# Altium integrated library ON Semi Zener Diodes.IntLib: 1366 symbols (part 12 of 29)
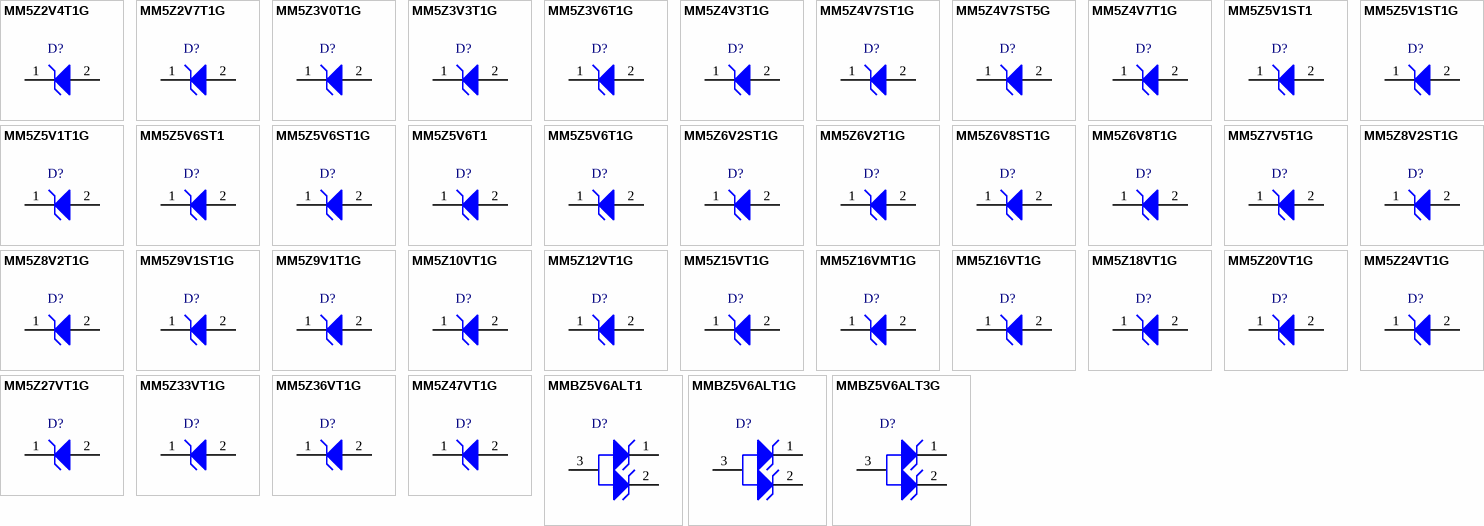
[diagram p55: symbols MM5Z2V4T1G to MMBZ5V6ALT3G]

## MM5Z20VT1G
designator D?
Zener Voltage Regulator, 500 mW, 2-Pin SOD-523, Pb-Free, Tape and Reel; Manufacturer: On Semiconductor; PartNumber: MM5Z20VT1G; P Max (W): 0.5; VZ Typ (V): 20; DatasheetVersion: Rev. 10; PackageVersion: Rev. E, 09/2010; PackageReference: SOD-523-2-502-01; PackageDescription: 2-Pin SOD, Body 1.2 x 0.8 mm; Supplier 1: Digi-Key; Supplier Part Number 1: MM5Z20VT1GOS-ND; Supplier 2: Mouser; Supplier Part Number 2: 863-MM5Z20VT1G; Packing: Tape and Reel; RoHS: Pb-Free; Mounting Technology: Surface Mount; ComponentLink1Description: Manufacturer URL; ComponentLink1URL: http://www.onsemi.com/; ComponentLink2Description: Datasheet; ComponentLink2URL: http://www.onsemi.cn/pub_link/Collateral/MM5Z2V4T1-D.PDF; ComponentLink3Description: Package Specification; ComponentLink3URL: http://www.onsemi.com/pub_link/Collateral/502-01.PDF
footprint ONSC-SOD-523-2-502-01_V (SOD, 2-Leads, Body 1.2x0.8mm)
pins: 1 K, 2 A

## MM5Z24VT1G
designator D?
Zener Voltage Regulator, 500 mW, 2-Pin SOD-523, Pb-Free, Tape and Reel; Manufacturer: On Semiconductor; PartNumber: MM5Z24VT1G; P Max (W): 0.5; VZ Typ (V): 24.2; DatasheetVersion: Rev. 10; PackageVersion: Rev. E, 09/2010; PackageReference: SOD-523-2-502-01; PackageDescription: 2-Pin SOD, Body 1.2 x 0.8 mm; Supplier 1: Digi-Key; Supplier Part Number 1: MM5Z24VT1GOSTR-ND; Supplier 2: Digi-Key; Supplier Part Number 2: MM5Z24VT1GOSCT-ND; Supplier 3: Mouser; Supplier Part Number 3: 863-MM5Z24VT1G; Packing: Tape and Reel; RoHS: Pb-Free; Mounting Technology: Surface Mount; ComponentLink1Description: Manufacturer URL; ComponentLink1URL: http://www.onsemi.com/; ComponentLink2Description: Datasheet; ComponentLink2URL: http://www.onsemi.cn/pub_link/Collateral/MM5Z2V4T1-D.PDF; ComponentLink3Description: Package Specification; ComponentLink3URL: http://www.onsemi.com/pub_link/Collateral/502-01.PDF
footprint ONSC-SOD-523-2-502-01_V (SOD, 2-Leads, Body 1.2x0.8mm)
pins: 1 K, 2 A

## MM5Z27VT1G
designator D?
Zener Voltage Regulator, 500 mW, 2-Pin SOD-523, Pb-Free, Tape and Reel; Manufacturer: On Semiconductor; PartNumber: MM5Z27VT1G; P Max (W): 0.5; VZ Typ (V): 27; DatasheetVersion: Rev. 10; PackageVersion: Rev. E, 09/2010; PackageReference: SOD-523-2-502-01; PackageDescription: 2-Pin SOD, Body 1.2 x 0.8 mm; Supplier 1: Digi-Key; Supplier Part Number 1: MM5Z27VT1GOS-ND; Supplier 2: Newark; Supplier Part Number 2: 61K0991; Supplier 3: Mouser; Supplier Part Number 3: 863-MM5Z27VT1G; Packing: Tape and Reel; RoHS: Pb-Free; Mounting Technology: Surface Mount; ComponentLink1Description: Manufacturer URL; ComponentLink1URL: http://www.onsemi.com/; ComponentLink2Description: Datasheet; ComponentLink2URL: http://www.onsemi.cn/pub_link/Collateral/MM5Z2V4T1-D.PDF; ComponentLink3Description: Package Specification; ComponentLink3URL: http://www.onsemi.com/pub_link/Collateral/502-01.PDF
footprint ONSC-SOD-523-2-502-01_V (SOD, 2-Leads, Body 1.2x0.8mm)
pins: 1 K, 2 A

## MM5Z33VT1G
designator D?
Zener Voltage Regulator, 500 mW, 2-Pin SOD-523, Pb-Free, Tape and Reel; Manufacturer: On Semiconductor; PartNumber: MM5Z33VT1G; P Max (W): 0.5; VZ Typ (V): 33; DatasheetVersion: Rev. 10; PackageVersion: Rev. E, 09/2010; PackageReference: SOD-523-2-502-01; PackageDescription: 2-Pin SOD, Body 1.2 x 0.8 mm; Supplier 1: Digi-Key; Supplier Part Number 1: MM5Z33VT1GOSTR-ND; Supplier 2: Digi-Key; Supplier Part Number 2: MM5Z33VT1GOSCT-ND; Supplier 3: Newark; Supplier Part Number 3: 61K0994; Supplier 4: Mouser; Supplier Part Number 4: 863-MM5Z33VT1G; Packing: Tape and Reel; RoHS: Pb-Free; Mounting Technology: Surface Mount; ComponentLink1Description: Manufacturer URL; ComponentLink1URL: http://www.onsemi.com/; ComponentLink2Description: Datasheet; ComponentLink2URL: http://www.onsemi.cn/pub_link/Collateral/MM5Z2V4T1-D.PDF; ComponentLink3Description: Package Specification; ComponentLink3URL: http://www.onsemi.com/pub_link/Collateral/502-01.PDF
footprint ONSC-SOD-523-2-502-01_V (SOD, 2-Leads, Body 1.2x0.8mm)
pins: 1 K, 2 A

## MM5Z36VT1G
designator D?
Zener Voltage Regulator, 500 mW, 2-Pin SOD-523, Pb-Free, Tape and Reel; Manufacturer: On Semiconductor; PartNumber: MM5Z36VT1G; P Max (W): 0.5; VZ Typ (V): 36; DatasheetVersion: Rev. 10; PackageVersion: Rev. E, 09/2010; PackageReference: SOD-523-2-502-01; PackageDescription: 2-Pin SOD, Body 1.2 x 0.8 mm; Supplier 1: Digi-Key; Supplier Part Number 1: MM5Z36VT1GOSTR-ND; Supplier 2: Digi-Key; Supplier Part Number 2: MM5Z36VT1GOSCT-ND; Supplier 3: Newark; Supplier Part Number 3: 61K0995; Supplier 4: Mouser; Supplier Part Number 4: 863-MM5Z36VT1G; Packing: Tape and Reel; RoHS: Pb-Free; Mounting Technology: Surface Mount; ComponentLink1Description: Manufacturer URL; ComponentLink1URL: http://www.onsemi.com/; ComponentLink2Description: Datasheet; ComponentLink2URL: http://www.onsemi.cn/pub_link/Collateral/MM5Z2V4T1-D.PDF; ComponentLink3Description: Package Specification; ComponentLink3URL: http://www.onsemi.com/pub_link/Collateral/502-01.PDF
footprint ONSC-SOD-523-2-502-01_V (SOD, 2-Leads, Body 1.2x0.8mm)
pins: 1 K, 2 A

## MM5Z47VT1G
designator D?
Zener Voltage Regulator, 500 mW, 2-Pin SOD-523, Pb-Free, Tape and Reel; Manufacturer: On Semiconductor; PartNumber: MM5Z47VT1G; P Max (W): 0.5; VZ Typ (V): 47; DatasheetVersion: Rev. 10; PackageVersion: Rev. E, 09/2010; PackageReference: SOD-523-2-502-01; PackageDescription: 2-Pin SOD, Body 1.2 x 0.8 mm; Supplier 1: Digi-Key; Supplier Part Number 1: MM5Z47VT1GOS-ND; Supplier 2: Mouser; Supplier Part Number 2: 863-MM5Z47VT1G; Packing: Tape and Reel; RoHS: Pb-Free; Mounting Technology: Surface Mount; ComponentLink1Description: Manufacturer URL; ComponentLink1URL: http://www.onsemi.com/; ComponentLink2Description: Datasheet; ComponentLink2URL: http://www.onsemi.cn/pub_link/Collateral/MM5Z2V4T1-D.PDF; ComponentLink3Description: Package Specification; ComponentLink3URL: http://www.onsemi.com/pub_link/Collateral/502-01.PDF
footprint ONSC-SOD-523-2-502-01_V (SOD, 2-Leads, Body 1.2x0.8mm)
pins: 1 K, 2 A

## MMBZ5V6ALT1
designator D?
24 W Peak Power Zener Transient Voltage Suppressor, Dual Common Anode Zeners for ESD Protection, 3-Pin SOT-23, Tape and Reel; Manufacturer: On Semiconductor; PartNumber: MMBZ5V6ALT1; VZ Typ (V): 5.6; DatasheetVersion: Rev. 13; PackageVersion: Rev. AP, 11/2009; PackageReference: SOT-23-3-318-08; PackageDescription: 3-Pin Small Outline Transistor, Body 2.92 x 1.3 mm, Pitch 0.95 mm; Supplier 1: Digi-Key; Supplier Part Number 1: MMBZ5V6ALT1OSCT-ND; Packing: Tape and Reel; Mounting Technology: Surface Mount; ComponentLink1Description: Manufacturer URL; ComponentLink1URL: http://www.onsemi.com/; ComponentLink2Description: Datasheet; ComponentLink2URL: http://www.onsemi.cn/pub_link/Collateral/MMBZ5V6ALT1-D.PDF; ComponentLink3Description: Package Specification; ComponentLink3URL: http://www.onsemi.cn/pub_link/Collateral/318-08.PDF
footprint ONSC-SOT-23-3-318-08_V (SOT23, 3-Leads, Body 2.92x1.3mm, Pitch 0.95mm)
pins: 1 K1, 2 K2, 3 A

## MMBZ5V6ALT1G
designator D?
24 W Peak Power Zener Transient Voltage Suppressor, Dual Common Anode Zeners for ESD Protection, 3-Pin SOT-23, Pb-Free, Tape and Reel; Manufacturer: On Semiconductor; PartNumber: MMBZ5V6ALT1G; VZ Typ (V): 5.6; DatasheetVersion: Rev. 13; PackageVersion: Rev. AP, 11/2009; PackageReference: SOT-23-3-318-08; PackageDescription: 3-Pin Small Outline Transistor, Body 2.92 x 1.3 mm, Pitch 0.95 mm; Supplier 1: Digi-Key; Supplier Part Number 1: MMBZ5V6ALT1GOSTR-ND; Supplier 2: Digi-Key; Supplier Part Number 2: MMBZ5V6ALT1GOSCT-ND; Supplier 3: Digi-Key; Supplier Part Number 3: MMBZ5V6ALT1GOSDKR-ND; Supplier 4: Farnell; Supplier Part Number 4: 1431253RL; Supplier 5: Farnell; Supplier Part Number 5: 2317793; Supplier 6: Farnell; Supplier Part Number 6: 1431253; Supplier 7: Newark; Supplier Part Number 7: 67R1349; Supplier 8: Newark; Supplier Part Number 8: 98H0768; Supplier 9: Mouser; Supplier Part Number 9: 863-MMBZ5V6ALT1G; Packing: Tape and Reel; RoHS: Pb-Free; Mounting Technology: Surface Mount; ComponentLink1Description: Manufacturer URL; ComponentLink1URL: http://www.onsemi.com/; ComponentLink2Description: Datasheet; ComponentLink2URL: http://www.onsemi.cn/pub_link/Collateral/MMBZ5V6ALT1-D.PDF; ComponentLink3Description: Package Specification; ComponentLink3URL: http://www.onsemi.cn/pub_link/Collateral/318-08.PDF
footprint ONSC-SOT-23-3-318-08_V (SOT23, 3-Leads, Body 2.92x1.3mm, Pitch 0.95mm)
pins: 1 K1, 2 K2, 3 A

## MMBZ5V6ALT3G
designator D?
24 W Peak Power Zener Transient Voltage Suppressor, Dual Common Anode Zeners for ESD Protection, 3-Pin SOT-23, Pb-Free, Tape and Reel; Manufacturer: On Semiconductor; PartNumber: MMBZ5V6ALT3G; VZ Typ (V): 5.6; DatasheetVersion: Rev. 13; PackageVersion: Rev. AP, 11/2009; PackageReference: SOT-23-3-318-08; PackageDescription: 3-Pin Small Outline Transistor, Body 2.92 x 1.3 mm, Pitch 0.95 mm; Supplier 1: Digi-Key; Supplier Part Number 1: MMBZ5V6ALT3G-ND; Supplier 2: Newark; Supplier Part Number 2: 98H0769; Supplier 3: Mouser; Supplier Part Number 3: 863-MMBZ5V6ALT3G; Packing: Tape and Reel; RoHS: Pb-Free; Mounting Technology: Surface Mount; ComponentLink1Description: Manufacturer URL; ComponentLink1URL: http://www.onsemi.com/; ComponentLink2Description: Datasheet; ComponentLink2URL: http://www.onsemi.cn/pub_link/Collateral/MMBZ5V6ALT1-D.PDF; ComponentLink3Description: Package Specification; ComponentLink3URL: http://www.onsemi.cn/pub_link/Collateral/318-08.PDF
footprint ONSC-SOT-23-3-318-08_V (SOT23, 3-Leads, Body 2.92x1.3mm, Pitch 0.95mm)
pins: 1 K1, 2 K2, 3 A

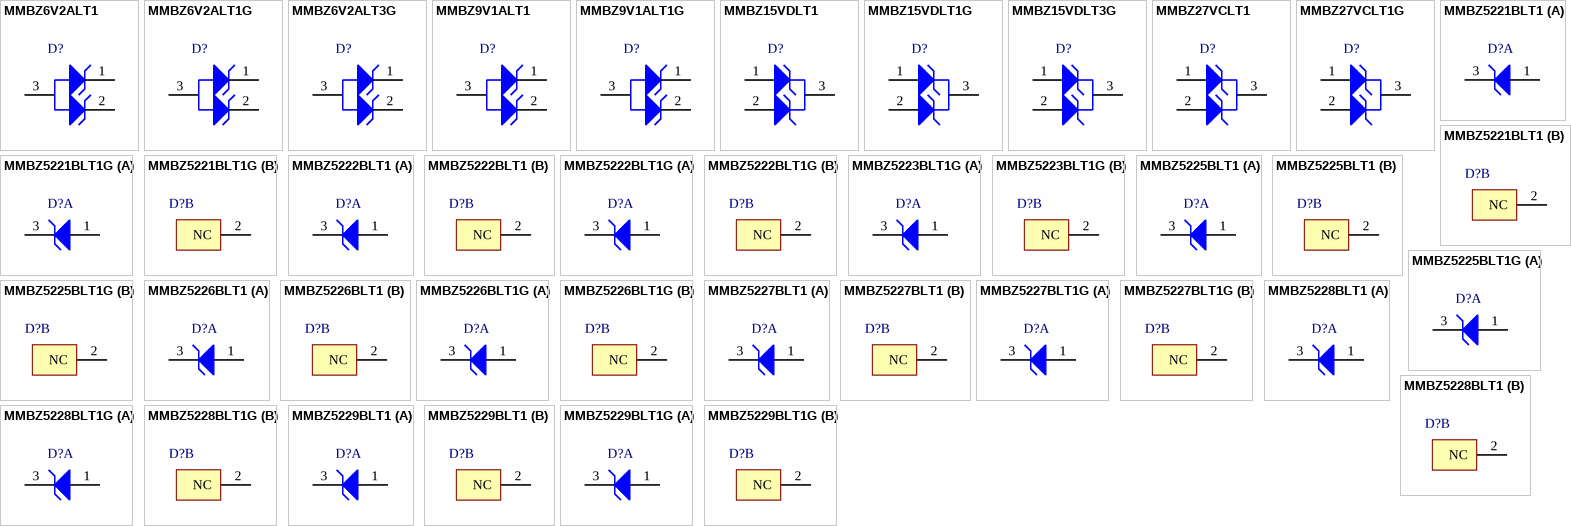
[diagram p16: symbols MMBZ6V2ALT1 to MMBZ5229BLT1G]

## MMBZ6V2ALT1
designator D?
24 W Peak Power Zener Transient Voltage Suppressor, Dual Common Anode Zeners for ESD Protection, 3-Pin SOT-23, Tape and Reel; Manufacturer: On Semiconductor; PartNumber: MMBZ6V2ALT1; VZ Typ (V): 6.2; DatasheetVersion: Rev. 13; PackageVersion: Rev. AP, 11/2009; PackageReference: SOT-23-3-318-08; PackageDescription: 3-Pin Small Outline Transistor, Body 2.92 x 1.3 mm, Pitch 0.95 mm; Supplier 1: Digi-Key; Supplier Part Number 1: MMBZ6V2ALT1OSTR-ND; Supplier 2: Digi-Key; Supplier Part Number 2: MMBZ6V2ALT1OSCT-ND; Packing: Tape and Reel; Mounting Technology: Surface Mount; ComponentLink1Description: Manufacturer URL; ComponentLink1URL: http://www.onsemi.com/; ComponentLink2Description: Datasheet; ComponentLink2URL: http://www.onsemi.cn/pub_link/Collateral/MMBZ5V6ALT1-D.PDF; ComponentLink3Description: Package Specification; ComponentLink3URL: http://www.onsemi.cn/pub_link/Collateral/318-08.PDF
footprint ONSC-SOT-23-3-318-08_V (SOT23, 3-Leads, Body 2.92x1.3mm, Pitch 0.95mm)
pins: 1 K1, 2 K2, 3 A

## MMBZ6V2ALT1G
designator D?
24 W Peak Power Zener Transient Voltage Suppressor, Dual Common Anode Zeners for ESD Protection, 3-Pin SOT-23, Pb-Free, Tape and Reel; Manufacturer: On Semiconductor; PartNumber: MMBZ6V2ALT1G; VZ Typ (V): 6.2; DatasheetVersion: Rev. 13; PackageVersion: Rev. AP, 11/2009; PackageReference: SOT-23-3-318-08; PackageDescription: 3-Pin Small Outline Transistor, Body 2.92 x 1.3 mm, Pitch 0.95 mm; Supplier 1: Digi-Key; Supplier Part Number 1: MMBZ6V2ALT1GOSTR-ND; Supplier 2: Digi-Key; Supplier Part Number 2: MMBZ6V2ALT1GOSCT-ND; Supplier 3: Digi-Key; Supplier Part Number 3: MMBZ6V2ALT1GOSDKR-ND; Supplier 4: Farnell; Supplier Part Number 4: 1431254RL; Supplier 5: Newark; Supplier Part Number 5: 98H0798; Supplier 6: Mouser; Supplier Part Number 6: 863-MMBZ6V2ALT1G; Packing: Tape and Reel; RoHS: Pb-Free; Mounting Technology: Surface Mount; ComponentLink1Description: Manufacturer URL; ComponentLink1URL: http://www.onsemi.com/; ComponentLink2Description: Datasheet; ComponentLink2URL: http://www.onsemi.cn/pub_link/Collateral/MMBZ5V6ALT1-D.PDF; ComponentLink3Description: Package Specification; ComponentLink3URL: http://www.onsemi.cn/pub_link/Collateral/318-08.PDF
footprint ONSC-SOT-23-3-318-08_V (SOT23, 3-Leads, Body 2.92x1.3mm, Pitch 0.95mm)
pins: 1 K1, 2 K2, 3 A

## MMBZ6V2ALT3G
designator D?
24 W Peak Power Zener Transient Voltage Suppressor, Dual Common Anode Zeners for ESD Protection, 3-Pin SOT-23, Pb-Free, Tape and Reel; Manufacturer: On Semiconductor; PartNumber: MMBZ6V2ALT3G; VZ Typ (V): 6.2; DatasheetVersion: Rev. 13; PackageVersion: Rev. AP, 11/2009; PackageReference: SOT-23-3-318-08; PackageDescription: 3-Pin Small Outline Transistor, Body 2.92 x 1.3 mm, Pitch 0.95 mm; Supplier 1: Digi-Key; Supplier Part Number 1: MMBZ6V2ALT3G-ND; Supplier 2: Mouser; Supplier Part Number 2: 863-MMBZ6V2ALT3G; Packing: Tape and Reel; RoHS: Pb-Free; Mounting Technology: Surface Mount; ComponentLink1Description: Manufacturer URL; ComponentLink1URL: http://www.onsemi.com/; ComponentLink2Description: Datasheet; ComponentLink2URL: http://www.onsemi.cn/pub_link/Collateral/MMBZ5V6ALT1-D.PDF; ComponentLink3Description: Package Specification; ComponentLink3URL: http://www.onsemi.cn/pub_link/Collateral/318-08.PDF
footprint ONSC-SOT-23-3-318-08_V (SOT23, 3-Leads, Body 2.92x1.3mm, Pitch 0.95mm)
pins: 1 K1, 2 K2, 3 A

## MMBZ9V1ALT1
designator D?
24 W Peak Power Zener Transient Voltage Suppressor, Dual Common Anode Zeners for ESD Protection, 3-Pin SOT-23, Tape and Reel; Manufacturer: On Semiconductor; PartNumber: MMBZ9V1ALT1; VZ Typ (V): 9.1; DatasheetVersion: Rev. 13; PackageVersion: Rev. AP, 11/2009; PackageReference: SOT-23-3-318-08; PackageDescription: 3-Pin Small Outline Transistor, Body 2.92 x 1.3 mm, Pitch 0.95 mm; Supplier 1: Digi-Key; Supplier Part Number 1: MMBZ9V1ALT1OS-ND; Packing: Tape and Reel; Mounting Technology: Surface Mount; ComponentLink1Description: Manufacturer URL; ComponentLink1URL: http://www.onsemi.com/; ComponentLink2Description: Datasheet; ComponentLink2URL: http://www.onsemi.cn/pub_link/Collateral/MMBZ5V6ALT1-D.PDF; ComponentLink3Description: Package Specification; ComponentLink3URL: http://www.onsemi.cn/pub_link/Collateral/318-08.PDF
footprint ONSC-SOT-23-3-318-08_V (SOT23, 3-Leads, Body 2.92x1.3mm, Pitch 0.95mm)
pins: 1 K1, 2 K2, 3 A

## MMBZ9V1ALT1G
designator D?
24 W Peak Power Zener Transient Voltage Suppressor, Dual Common Anode Zeners for ESD Protection, 3-Pin SOT-23, Pb-Free, Tape and Reel; Manufacturer: On Semiconductor; PartNumber: MMBZ9V1ALT1G; VZ Typ (V): 9.1; DatasheetVersion: Rev. 13; PackageVersion: Rev. AP, 11/2009; PackageReference: SOT-23-3-318-08; PackageDescription: 3-Pin Small Outline Transistor, Body 2.92 x 1.3 mm, Pitch 0.95 mm; Supplier 1: Digi-Key; Supplier Part Number 1: MMBZ9V1ALT1GOSTR-ND; Supplier 2: Digi-Key; Supplier Part Number 2: MMBZ9V1ALT1GOSCT-ND; Supplier 3: Digi-Key; Supplier Part Number 3: MMBZ9V1ALT1GOSDKR-ND; Supplier 4: Farnell; Supplier Part Number 4: 2369094; Supplier 5: Newark; Supplier Part Number 5: 26K4553; Supplier 6: Newark; Supplier Part Number 6: 10N9494; Supplier 7: Mouser; Supplier Part Number 7: 863-MMBZ9V1ALT1G; Packing: Tape and Reel; RoHS: Pb-Free; Mounting Technology: Surface Mount; ComponentLink1Description: Manufacturer URL; ComponentLink1URL: http://www.onsemi.com/; ComponentLink2Description: Datasheet; ComponentLink2URL: http://www.onsemi.cn/pub_link/Collateral/MMBZ5V6ALT1-D.PDF; ComponentLink3Description: Package Specification; ComponentLink3URL: http://www.onsemi.cn/pub_link/Collateral/318-08.PDF
footprint ONSC-SOT-23-3-318-08_V (SOT23, 3-Leads, Body 2.92x1.3mm, Pitch 0.95mm)
pins: 1 K1, 2 K2, 3 A

## MMBZ15VDLT1
designator D?
40 W Peak Power Zener Transient Voltage Suppressor, Dual Common Cathode Zeners for ESD Protection, 3-Pin SOT-23, Tape and Reel; Manufacturer: On Semiconductor; PartNumber: MMBZ15VDLT1; VZ Typ (V): 15; DatasheetVersion: Rev. 12; PackageVersion: Rev. AP, 11/2009; PackageReference: SOT-23-3-318-08; PackageDescription: 3-Pin Small Outline Transistor, Body 2.92 x 1.3 mm, Pitch 0.95 mm; Supplier 1: Digi-Key; Supplier Part Number 1: MMBZ15VDLT1OSCT-ND; Packing: Tape and Reel; Mounting Technology: Surface Mount; ComponentLink1Description: Manufacturer URL; ComponentLink1URL: http://www.onsemi.com/; ComponentLink2Description: Datasheet; ComponentLink2URL: http://www.onsemi.cn/pub_link/Collateral/MMBZ15VDLT1-D.PDF; ComponentLink3Description: Package Specification; ComponentLink3URL: http://www.onsemi.cn/pub_link/Collateral/318-08.PDF
footprint ONSC-SOT-23-3-318-08_V (SOT23, 3-Leads, Body 2.92x1.3mm, Pitch 0.95mm)
pins: 1 A1, 2 A2, 3 K

## MMBZ15VDLT1G
designator D?
40 W Peak Power Zener Transient Voltage Suppressor, Dual Common Cathode Zeners for ESD Protection, 3-Pin SOT-23, Pb-Free, Tape and Reel; Manufacturer: On Semiconductor; PartNumber: MMBZ15VDLT1G; VZ Typ (V): 15; DatasheetVersion: Rev. 12; PackageVersion: Rev. AP, 11/2009; PackageReference: SOT-23-3-318-08; PackageDescription: 3-Pin Small Outline Transistor, Body 2.92 x 1.3 mm, Pitch 0.95 mm; Supplier 1: Digi-Key; Supplier Part Number 1: MMBZ15VDLT1GOSTR-ND; Supplier 2: Digi-Key; Supplier Part Number 2: MMBZ15VDLT1GOSCT-ND; Supplier 3: Digi-Key; Supplier Part Number 3: MMBZ15VDLT1GOSDKR-ND; Supplier 4: Farnell; Supplier Part Number 4: 2317791; Supplier 5: Newark; Supplier Part Number 5: 98H0760; Supplier 6: Newark; Supplier Part Number 6: 67R1348; Supplier 7: Mouser; Supplier Part Number 7: 863-MMBZ15VDLT1G; Packing: Tape and Reel; RoHS: Pb-Free; Mounting Technology: Surface Mount; ComponentLink1Description: Manufacturer URL; ComponentLink1URL: http://www.onsemi.com/; ComponentLink2Description: Datasheet; ComponentLink2URL: http://www.onsemi.cn/pub_link/Collateral/MMBZ15VDLT1-D.PDF; ComponentLink3Description: Package Specification; ComponentLink3URL: http://www.onsemi.cn/pub_link/Collateral/318-08.PDF
footprint ONSC-SOT-23-3-318-08_V (SOT23, 3-Leads, Body 2.92x1.3mm, Pitch 0.95mm)
pins: 1 A1, 2 A2, 3 K

## MMBZ15VDLT3G
designator D?
40 W Peak Power Zener Transient Voltage Suppressor, Dual Common Cathode Zeners for ESD Protection, 3-Pin SOT-23, Pb-Free, Tape and Reel; Manufacturer: On Semiconductor; PartNumber: MMBZ15VDLT3G; VZ Typ (V): 15; DatasheetVersion: Rev. 12; PackageVersion: Rev. AP, 11/2009; PackageReference: SOT-23-3-318-08; PackageDescription: 3-Pin Small Outline Transistor, Body 2.92 x 1.3 mm, Pitch 0.95 mm; Supplier 1: Digi-Key; Supplier Part Number 1: MMBZ15VDLT3G-ND; Supplier 2: Newark; Supplier Part Number 2: 98H0761; Supplier 3: Mouser; Supplier Part Number 3: 863-MMBZ15VDLT3G; Packing: Tape and Reel; RoHS: Pb-Free; Mounting Technology: Surface Mount; ComponentLink1Description: Manufacturer URL; ComponentLink1URL: http://www.onsemi.com/; ComponentLink2Description: Datasheet; ComponentLink2URL: http://www.onsemi.cn/pub_link/Collateral/MMBZ15VDLT1-D.PDF; ComponentLink3Description: Package Specification; ComponentLink3URL: http://www.onsemi.cn/pub_link/Collateral/318-08.PDF
footprint ONSC-SOT-23-3-318-08_V (SOT23, 3-Leads, Body 2.92x1.3mm, Pitch 0.95mm)
pins: 1 A1, 2 A2, 3 K

## MMBZ27VCLT1
designator D?
40 W Peak Power Zener Transient Voltage Suppressor, Dual Common Cathode Zeners for ESD Protection, 3-Pin SOT-23, Tape and Reel; Manufacturer: On Semiconductor; PartNumber: MMBZ27VCLT1; VZ Typ (V): 27; DatasheetVersion: Rev. 12; PackageVersion: Rev. AP, 11/2009; PackageReference: SOT-23-3-318-08; PackageDescription: 3-Pin Small Outline Transistor, Body 2.92 x 1.3 mm, Pitch 0.95 mm; Supplier 1: Digi-Key; Supplier Part Number 1: MMBZ27VCLT1OSTR-ND; Supplier 2: Digi-Key; Supplier Part Number 2: MMBZ27VCLT1OSCT-ND; Packing: Tape and Reel; Mounting Technology: Surface Mount; ComponentLink1Description: Manufacturer URL; ComponentLink1URL: http://www.onsemi.com/; ComponentLink2Description: Datasheet; ComponentLink2URL: http://www.onsemi.cn/pub_link/Collateral/MMBZ15VDLT1-D.PDF; ComponentLink3Description: Package Specification; ComponentLink3URL: http://www.onsemi.cn/pub_link/Collateral/318-08.PDF
footprint ONSC-SOT-23-3-318-08_V (SOT23, 3-Leads, Body 2.92x1.3mm, Pitch 0.95mm)
pins: 1 A1, 2 A2, 3 K

## MMBZ27VCLT1G
designator D?
40 W Peak Power Zener Transient Voltage Suppressor, Dual Common Cathode Zeners for ESD Protection, 3-Pin SOT-23, Pb-Free, Tape and Reel; Manufacturer: On Semiconductor; PartNumber: MMBZ27VCLT1G; VZ Typ (V): 27; DatasheetVersion: Rev. 12; PackageVersion: Rev. AP, 11/2009; PackageReference: SOT-23-3-318-08; PackageDescription: 3-Pin Small Outline Transistor, Body 2.92 x 1.3 mm, Pitch 0.95 mm; Supplier 1: Digi-Key; Supplier Part Number 1: MMBZ27VCLT1GOSTR-ND; Supplier 2: Digi-Key; Supplier Part Number 2: MMBZ27VCLT1GOSCT-ND; Supplier 3: Digi-Key; Supplier Part Number 3: MMBZ27VCLT1GOSDKR-ND; Supplier 4: Farnell; Supplier Part Number 4: 1431230; Supplier 5: Farnell; Supplier Part Number 5: 1431230RL; Supplier 6: Newark; Supplier Part Number 6: 98H0766; Supplier 7: Mouser; Supplier Part Number 7: 863-MMBZ27VCLT1G; Packing: Tape and Reel; RoHS: Pb-Free; Mounting Technology: Surface Mount; ComponentLink1Description: Manufacturer URL; ComponentLink1URL: http://www.onsemi.com/; ComponentLink2Description: Datasheet; ComponentLink2URL: http://www.onsemi.cn/pub_link/Collateral/MMBZ15VDLT1-D.PDF; ComponentLink3Description: Package Specification; ComponentLink3URL: http://www.onsemi.cn/pub_link/Collateral/318-08.PDF
footprint ONSC-SOT-23-3-318-08_V (SOT23, 3-Leads, Body 2.92x1.3mm, Pitch 0.95mm)
pins: 1 A1, 2 A2, 3 K

## MMBZ5221BLT1
designator D?
Zener Voltage Regulator, 225 mW, 3-Pin SOT-23, Tape and Reel; Manufacturer: On Semiconductor; PartNumber: MMBZ5221BLT1; VZ Typ (V): 2.4; DatasheetVersion: Rev. 12; PackageVersion: Rev. AP, 11/2009; PackageReference: SOT-23-3-318-08; PackageDescription: 3-Pin Small Outline Transistor, Body 2.92 x 1.3 mm, Pitch 0.95 mm; Supplier 1: Digi-Key; Supplier Part Number 1: MMBZ5221BLT1OSTR-ND; Supplier 2: Digi-Key; Supplier Part Number 2: MMBZ5221BLT1OSCT-ND; Packing: Tape and Reel; Mounting Technology: Surface Mount; ComponentLink1Description: Manufacturer URL; ComponentLink1URL: http://www.onsemi.com/; ComponentLink2Description: Datasheet; ComponentLink2URL: http://www.onsemi.cn/pub_link/Collateral/MMBZ5221BLT1-D.PDF; ComponentLink3Description: Package Specification; ComponentLink3URL: http://www.onsemi.cn/pub_link/Collateral/318-08.PDF
footprint ONSC-SOT-23-3-318-08_V (SOT23, 3-Leads, Body 2.92x1.3mm, Pitch 0.95mm)
part A pins: 1 A, 3 K
part B pins: 2 NC

## MMBZ5221BLT1G
designator D?
Zener Voltage Regulator, 225 mW, 3-Pin SOT-23, Pb-Free, Tape and Reel; Manufacturer: On Semiconductor; PartNumber: MMBZ5221BLT1G; VZ Typ (V): 2.4; DatasheetVersion: Rev. 12; PackageVersion: Rev. AP, 11/2009; PackageReference: SOT-23-3-318-08; PackageDescription: 3-Pin Small Outline Transistor, Body 2.92 x 1.3 mm, Pitch 0.95 mm; Supplier 1: Digi-Key; Supplier Part Number 1: MMBZ5221BLT1GOSTR-ND; Supplier 2: Digi-Key; Supplier Part Number 2: MMBZ5221BLT1GOSCT-ND; Supplier 3: Digi-Key; Supplier Part Number 3: MMBZ5221BLT1GOSDKR-ND; Supplier 4: Farnell; Supplier Part Number 4: 1431232RL; Supplier 5: Newark; Supplier Part Number 5: 45J1546; Supplier 6: Mouser; Supplier Part Number 6: 863-MMBZ5221BLT1G; Packing: Tape and Reel; RoHS: Pb-Free; Mounting Technology: Surface Mount; ComponentLink1Description: Manufacturer URL; ComponentLink1URL: http://www.onsemi.com/; ComponentLink2Description: Datasheet; ComponentLink2URL: http://www.onsemi.cn/pub_link/Collateral/MMBZ5221BLT1-D.PDF; ComponentLink3Description: Package Specification; ComponentLink3URL: http://www.onsemi.cn/pub_link/Collateral/318-08.PDF
footprint ONSC-SOT-23-3-318-08_V (SOT23, 3-Leads, Body 2.92x1.3mm, Pitch 0.95mm)
part A pins: 1 A, 3 K
part B pins: 2 NC

## MMBZ5222BLT1
designator D?
Zener Voltage Regulator, 225 mW, 3-Pin SOT-23, Tape and Reel; Manufacturer: On Semiconductor; PartNumber: MMBZ5222BLT1; VZ Typ (V): 2.5; DatasheetVersion: Rev. 12; PackageVersion: Rev. AP, 11/2009; PackageReference: SOT-23-3-318-08; PackageDescription: 3-Pin Small Outline Transistor, Body 2.92 x 1.3 mm, Pitch 0.95 mm; Supplier 1: Digi-Key; Supplier Part Number 1: MMBZ5222BLT1OSTR-ND; Supplier 2: Digi-Key; Supplier Part Number 2: MMBZ5222BLT1OSCT-ND; Packing: Tape and Reel; Mounting Technology: Surface Mount; ComponentLink1Description: Manufacturer URL; ComponentLink1URL: http://www.onsemi.com/; ComponentLink2Description: Datasheet; ComponentLink2URL: http://www.onsemi.cn/pub_link/Collateral/MMBZ5221BLT1-D.PDF; ComponentLink3Description: Package Specification; ComponentLink3URL: http://www.onsemi.cn/pub_link/Collateral/318-08.PDF
footprint ONSC-SOT-23-3-318-08_V (SOT23, 3-Leads, Body 2.92x1.3mm, Pitch 0.95mm)
part A pins: 1 A, 3 K
part B pins: 2 NC

## MMBZ5222BLT1G
designator D?
Zener Voltage Regulator, 225 mW, 3-Pin SOT-23, Pb-Free, Tape and Reel; Manufacturer: On Semiconductor; PartNumber: MMBZ5222BLT1G; VZ Typ (V): 2.5; DatasheetVersion: Rev. 12; PackageVersion: Rev. AP, 11/2009; PackageReference: SOT-23-3-318-08; PackageDescription: 3-Pin Small Outline Transistor, Body 2.92 x 1.3 mm, Pitch 0.95 mm; Supplier 1: Digi-Key; Supplier Part Number 1: MMBZ5222BLT1GOSTR-ND; Supplier 2: Digi-Key; Supplier Part Number 2: MMBZ5222BLT1GOSCT-ND; Supplier 3: Digi-Key; Supplier Part Number 3: MMBZ5222BLT1GOSDKR-ND; Supplier 4: Farnell; Supplier Part Number 4: 1876356; Supplier 5: Newark; Supplier Part Number 5: 26K4548; Supplier 6: Newark; Supplier Part Number 6: 10N9484; Supplier 7: Mouser; Supplier Part Number 7: 863-MMBZ5222BLT1G; Packing: Tape and Reel; RoHS: Pb-Free; Mounting Technology: Surface Mount; ComponentLink1Description: Manufacturer URL; ComponentLink1URL: http://www.onsemi.com/; ComponentLink2Description: Datasheet; ComponentLink2URL: http://www.onsemi.cn/pub_link/Collateral/MMBZ5221BLT1-D.PDF; ComponentLink3Description: Package Specification; ComponentLink3URL: http://www.onsemi.cn/pub_link/Collateral/318-08.PDF
footprint ONSC-SOT-23-3-318-08_V (SOT23, 3-Leads, Body 2.92x1.3mm, Pitch 0.95mm)
part A pins: 1 A, 3 K
part B pins: 2 NC

## MMBZ5223BLT1G
designator D?
Zener Voltage Regulator, 225 mW, 3-Pin SOT-23, Pb-Free, Tape and Reel; Manufacturer: On Semiconductor; PartNumber: MMBZ5223BLT1G; VZ Typ (V): 2.7; DatasheetVersion: Rev. 12; PackageVersion: Rev. AP, 11/2009; PackageReference: SOT-23-3-318-08; PackageDescription: 3-Pin Small Outline Transistor, Body 2.92 x 1.3 mm, Pitch 0.95 mm; Supplier 1: Digi-Key; Supplier Part Number 1: MMBZ5223BLT1GOSTR-ND; Supplier 2: Digi-Key; Supplier Part Number 2: MMBZ5223BLT1GOSCT-ND; Supplier 3: Digi-Key; Supplier Part Number 3: MMBZ5223BLT1GOSDKR-ND; Supplier 4: Newark; Supplier Part Number 4: 10N9485; Supplier 5: Mouser; Supplier Part Number 5: 863-MMBZ5223BLT1G; Packing: Tape and Reel; RoHS: Pb-Free; Mounting Technology: Surface Mount; ComponentLink1Description: Manufacturer URL; ComponentLink1URL: http://www.onsemi.com/; ComponentLink2Description: Datasheet; ComponentLink2URL: http://www.onsemi.cn/pub_link/Collateral/MMBZ5221BLT1-D.PDF; ComponentLink3Description: Package Specification; ComponentLink3URL: http://www.onsemi.cn/pub_link/Collateral/318-08.PDF
footprint ONSC-SOT-23-3-318-08_V (SOT23, 3-Leads, Body 2.92x1.3mm, Pitch 0.95mm)
part A pins: 1 A, 3 K
part B pins: 2 NC

## MMBZ5225BLT1
designator D?
Zener Voltage Regulator, 225 mW, 3-Pin SOT-23, Tape and Reel; Manufacturer: On Semiconductor; PartNumber: MMBZ5225BLT1; VZ Typ (V): 3; DatasheetVersion: Rev. 12; PackageVersion: Rev. AP, 11/2009; PackageReference: SOT-23-3-318-08; PackageDescription: 3-Pin Small Outline Transistor, Body 2.92 x 1.3 mm, Pitch 0.95 mm; Supplier 1: Digi-Key; Supplier Part Number 1: MMBZ5225BLT1OSTR-ND; Supplier 2: Digi-Key; Supplier Part Number 2: MMBZ5225BLT1OSCT-ND; Packing: Tape and Reel; Mounting Technology: Surface Mount; ComponentLink1Description: Manufacturer URL; ComponentLink1URL: http://www.onsemi.com/; ComponentLink2Description: Datasheet; ComponentLink2URL: http://www.onsemi.cn/pub_link/Collateral/MMBZ5221BLT1-D.PDF; ComponentLink3Description: Package Specification; ComponentLink3URL: http://www.onsemi.cn/pub_link/Collateral/318-08.PDF
footprint ONSC-SOT-23-3-318-08_V (SOT23, 3-Leads, Body 2.92x1.3mm, Pitch 0.95mm)
part A pins: 1 A, 3 K
part B pins: 2 NC

## MMBZ5225BLT1G
designator D?
Zener Voltage Regulator, 225 mW, 3-Pin SOT-23, Pb-Free, Tape and Reel; Manufacturer: On Semiconductor; PartNumber: MMBZ5225BLT1G; VZ Typ (V): 3; DatasheetVersion: Rev. 12; PackageVersion: Rev. AP, 11/2009; PackageReference: SOT-23-3-318-08; PackageDescription: 3-Pin Small Outline Transistor, Body 2.92 x 1.3 mm, Pitch 0.95 mm; Supplier 1: Digi-Key; Supplier Part Number 1: MMBZ5225BLT1GOSTR-ND; Supplier 2: Digi-Key; Supplier Part Number 2: MMBZ5225BLT1GOSCT-ND; Supplier 3: Digi-Key; Supplier Part Number 3: MMBZ5225BLT1GOSDKR-ND; Supplier 4: Newark; Supplier Part Number 4: 10N9486; Supplier 5: Newark; Supplier Part Number 5: 45J1548; Supplier 6: Mouser; Supplier Part Number 6: 863-MMBZ5225BLT1G; Packing: Tape and Reel; RoHS: Pb-Free; Mounting Technology: Surface Mount; ComponentLink1Description: Manufacturer URL; ComponentLink1URL: http://www.onsemi.com/; ComponentLink2Description: Datasheet; ComponentLink2URL: http://www.onsemi.cn/pub_link/Collateral/MMBZ5221BLT1-D.PDF; ComponentLink3Description: Package Specification; ComponentLink3URL: http://www.onsemi.cn/pub_link/Collateral/318-08.PDF
footprint ONSC-SOT-23-3-318-08_V (SOT23, 3-Leads, Body 2.92x1.3mm, Pitch 0.95mm)
part A pins: 1 A, 3 K
part B pins: 2 NC

## MMBZ5226BLT1
designator D?
Zener Voltage Regulator, 225 mW, 3-Pin SOT-23, Tape and Reel; Manufacturer: On Semiconductor; PartNumber: MMBZ5226BLT1; VZ Typ (V): 3.3; DatasheetVersion: Rev. 12; PackageVersion: Rev. AP, 11/2009; PackageReference: SOT-23-3-318-08; PackageDescription: 3-Pin Small Outline Transistor, Body 2.92 x 1.3 mm, Pitch 0.95 mm; Supplier 1: Digi-Key; Supplier Part Number 1: MMBZ5226BLT1OSTR-ND; Supplier 2: Digi-Key; Supplier Part Number 2: MMBZ5226BLT1OSCT-ND; Packing: Tape and Reel; Mounting Technology: Surface Mount; ComponentLink1Description: Manufacturer URL; ComponentLink1URL: http://www.onsemi.com/; ComponentLink2Description: Datasheet; ComponentLink2URL: http://www.onsemi.cn/pub_link/Collateral/MMBZ5221BLT1-D.PDF; ComponentLink3Description: Package Specification; ComponentLink3URL: http://www.onsemi.cn/pub_link/Collateral/318-08.PDF
footprint ONSC-SOT-23-3-318-08_V (SOT23, 3-Leads, Body 2.92x1.3mm, Pitch 0.95mm)
part A pins: 1 A, 3 K
part B pins: 2 NC

## MMBZ5226BLT1G
designator D?
Zener Voltage Regulator, 225 mW, 3-Pin SOT-23, Pb-Free, Tape and Reel; Manufacturer: On Semiconductor; PartNumber: MMBZ5226BLT1G; VZ Typ (V): 3.3; DatasheetVersion: Rev. 12; PackageVersion: Rev. AP, 11/2009; PackageReference: SOT-23-3-318-08; PackageDescription: 3-Pin Small Outline Transistor, Body 2.92 x 1.3 mm, Pitch 0.95 mm; Supplier 1: Digi-Key; Supplier Part Number 1: MMBZ5226BLT1GOSTR-ND; Supplier 2: Digi-Key; Supplier Part Number 2: MMBZ5226BLT1GOSCT-ND; Supplier 3: Digi-Key; Supplier Part Number 3: MMBZ5226BLT1GOSDKR-ND; Supplier 4: Farnell; Supplier Part Number 4: 2317728; Supplier 5: Farnell; Supplier Part Number 5: 1431233RL; Supplier 6: Farnell; Supplier Part Number 6: 1431233; Supplier 7: Newark; Supplier Part Number 7: 67R1350; Supplier 8: Newark; Supplier Part Number 8: 45J1549; Supplier 9: Mouser; Supplier Part Number 9: 863-MMBZ5226BLT1G; Packing: Tape and Reel; RoHS: Pb-Free; Mounting Technology: Surface Mount; ComponentLink1Description: Manufacturer URL; ComponentLink1URL: http://www.onsemi.com/; ComponentLink2Description: Datasheet; ComponentLink2URL: http://www.onsemi.cn/pub_link/Collateral/MMBZ5221BLT1-D.PDF; ComponentLink3Description: Package Specification; ComponentLink3URL: http://www.onsemi.cn/pub_link/Collateral/318-08.PDF
footprint ONSC-SOT-23-3-318-08_V (SOT23, 3-Leads, Body 2.92x1.3mm, Pitch 0.95mm)
part A pins: 1 A, 3 K
part B pins: 2 NC

## MMBZ5227BLT1
designator D?
Zener Voltage Regulator, 225 mW, 3-Pin SOT-23, Tape and Reel; Manufacturer: On Semiconductor; PartNumber: MMBZ5227BLT1; VZ Typ (V): 3.6; DatasheetVersion: Rev. 12; PackageVersion: Rev. AP, 11/2009; PackageReference: SOT-23-3-318-08; PackageDescription: 3-Pin Small Outline Transistor, Body 2.92 x 1.3 mm, Pitch 0.95 mm; Supplier 1: Digi-Key; Supplier Part Number 1: MMBZ5227BLT1OSTR-ND; Supplier 2: Digi-Key; Supplier Part Number 2: MMBZ5227BLT1OSCT-ND; Packing: Tape and Reel; Mounting Technology: Surface Mount; ComponentLink1Description: Manufacturer URL; ComponentLink1URL: http://www.onsemi.com/; ComponentLink2Description: Datasheet; ComponentLink2URL: http://www.onsemi.cn/pub_link/Collateral/MMBZ5221BLT1-D.PDF; ComponentLink3Description: Package Specification; ComponentLink3URL: http://www.onsemi.cn/pub_link/Collateral/318-08.PDF
footprint ONSC-SOT-23-3-318-08_V (SOT23, 3-Leads, Body 2.92x1.3mm, Pitch 0.95mm)
part A pins: 1 A, 3 K
part B pins: 2 NC

## MMBZ5227BLT1G
designator D?
Zener Voltage Regulator, 225 mW, 3-Pin SOT-23, Pb-Free, Tape and Reel; Manufacturer: On Semiconductor; PartNumber: MMBZ5227BLT1G; VZ Typ (V): 3.6; DatasheetVersion: Rev. 12; PackageVersion: Rev. AP, 11/2009; PackageReference: SOT-23-3-318-08; PackageDescription: 3-Pin Small Outline Transistor, Body 2.92 x 1.3 mm, Pitch 0.95 mm; Supplier 1: Digi-Key; Supplier Part Number 1: MMBZ5227BLT1GOSTR-ND; Supplier 2: Digi-Key; Supplier Part Number 2: MMBZ5227BLT1GOSCT-ND; Supplier 3: Digi-Key; Supplier Part Number 3: MMBZ5227BLT1GOSDKR-ND; Supplier 4: Newark; Supplier Part Number 4: 45J1550; Supplier 5: Mouser; Supplier Part Number 5: 863-MMBZ5227BLT1G; Packing: Tape and Reel; RoHS: Pb-Free; Mounting Technology: Surface Mount; ComponentLink1Description: Manufacturer URL; ComponentLink1URL: http://www.onsemi.com/; ComponentLink2Description: Datasheet; ComponentLink2URL: http://www.onsemi.cn/pub_link/Collateral/MMBZ5221BLT1-D.PDF; ComponentLink3Description: Package Specification; ComponentLink3URL: http://www.onsemi.cn/pub_link/Collateral/318-08.PDF
footprint ONSC-SOT-23-3-318-08_V (SOT23, 3-Leads, Body 2.92x1.3mm, Pitch 0.95mm)
part A pins: 1 A, 3 K
part B pins: 2 NC

## MMBZ5228BLT1
designator D?
Zener Voltage Regulator, 225 mW, 3-Pin SOT-23, Tape and Reel; Manufacturer: On Semiconductor; PartNumber: MMBZ5228BLT1; VZ Typ (V): 3.9; DatasheetVersion: Rev. 12; PackageVersion: Rev. AP, 11/2009; PackageReference: SOT-23-3-318-08; PackageDescription: 3-Pin Small Outline Transistor, Body 2.92 x 1.3 mm, Pitch 0.95 mm; Supplier 1: Digi-Key; Supplier Part Number 1: MMBZ5228BLT1OSTR-ND; Supplier 2: Digi-Key; Supplier Part Number 2: MMBZ5228BLT1OSCT-ND; Packing: Tape and Reel; Mounting Technology: Surface Mount; ComponentLink1Description: Manufacturer URL; ComponentLink1URL: http://www.onsemi.com/; ComponentLink2Description: Datasheet; ComponentLink2URL: http://www.onsemi.cn/pub_link/Collateral/MMBZ5221BLT1-D.PDF; ComponentLink3Description: Package Specification; ComponentLink3URL: http://www.onsemi.cn/pub_link/Collateral/318-08.PDF
footprint ONSC-SOT-23-3-318-08_V (SOT23, 3-Leads, Body 2.92x1.3mm, Pitch 0.95mm)
part A pins: 1 A, 3 K
part B pins: 2 NC

## MMBZ5228BLT1G
designator D?
Zener Voltage Regulator, 225 mW, 3-Pin SOT-23, Pb-Free, Tape and Reel; Manufacturer: On Semiconductor; PartNumber: MMBZ5228BLT1G; VZ Typ (V): 3.9; DatasheetVersion: Rev. 12; PackageVersion: Rev. AP, 11/2009; PackageReference: SOT-23-3-318-08; PackageDescription: 3-Pin Small Outline Transistor, Body 2.92 x 1.3 mm, Pitch 0.95 mm; Supplier 1: Digi-Key; Supplier Part Number 1: MMBZ5228BLT1GOSTR-ND; Supplier 2: Digi-Key; Supplier Part Number 2: MMBZ5228BLT1GOSCT-ND; Supplier 3: Digi-Key; Supplier Part Number 3: MMBZ5228BLT1GOSDKR-ND; Supplier 4: Farnell; Supplier Part Number 4: 1431234RL; Supplier 5: Farnell; Supplier Part Number 5: 1431234; Supplier 6: Newark; Supplier Part Number 6: 45J1551; Supplier 7: Mouser; Supplier Part Number 7: 863-MMBZ5228BLT1G; Packing: Tape and Reel; RoHS: Pb-Free; Mounting Technology: Surface Mount; ComponentLink1Description: Manufacturer URL; ComponentLink1URL: http://www.onsemi.com/; ComponentLink2Description: Datasheet; ComponentLink2URL: http://www.onsemi.cn/pub_link/Collateral/MMBZ5221BLT1-D.PDF; ComponentLink3Description: Package Specification; ComponentLink3URL: http://www.onsemi.cn/pub_link/Collateral/318-08.PDF
footprint ONSC-SOT-23-3-318-08_V (SOT23, 3-Leads, Body 2.92x1.3mm, Pitch 0.95mm)
part A pins: 1 A, 3 K
part B pins: 2 NC

## MMBZ5229BLT1
designator D?
Zener Voltage Regulator, 225 mW, 3-Pin SOT-23, Tape and Reel; Manufacturer: On Semiconductor; PartNumber: MMBZ5229BLT1; VZ Typ (V): 4.3; DatasheetVersion: Rev. 12; PackageVersion: Rev. AP, 11/2009; PackageReference: SOT-23-3-318-08; PackageDescription: 3-Pin Small Outline Transistor, Body 2.92 x 1.3 mm, Pitch 0.95 mm; Supplier 1: Digi-Key; Supplier Part Number 1: MMBZ5229BLT1OSCT-ND; Packing: Tape and Reel; Mounting Technology: Surface Mount; ComponentLink1Description: Manufacturer URL; ComponentLink1URL: http://www.onsemi.com/; ComponentLink2Description: Datasheet; ComponentLink2URL: http://www.onsemi.cn/pub_link/Collateral/MMBZ5221BLT1-D.PDF; ComponentLink3Description: Package Specification; ComponentLink3URL: http://www.onsemi.cn/pub_link/Collateral/318-08.PDF
footprint ONSC-SOT-23-3-318-08_V (SOT23, 3-Leads, Body 2.92x1.3mm, Pitch 0.95mm)
part A pins: 1 A, 3 K
part B pins: 2 NC

## MMBZ5229BLT1G
designator D?
Zener Voltage Regulator, 225 mW, 3-Pin SOT-23, Pb-Free, Tape and Reel; Manufacturer: On Semiconductor; PartNumber: MMBZ5229BLT1G; VZ Typ (V): 4.3; DatasheetVersion: Rev. 12; PackageVersion: Rev. AP, 11/2009; PackageReference: SOT-23-3-318-08; PackageDescription: 3-Pin Small Outline Transistor, Body 2.92 x 1.3 mm, Pitch 0.95 mm; Supplier 1: Digi-Key; Supplier Part Number 1: MMBZ5229BLT1GOSTR-ND; Supplier 2: Digi-Key; Supplier Part Number 2: MMBZ5229BLT1GOSCT-ND; Supplier 3: Digi-Key; Supplier Part Number 3: MMBZ5229BLT1GOSDKR-ND; Supplier 4: Farnell; Supplier Part Number 4: 1365399; Supplier 5: Newark; Supplier Part Number 5: 98H0774; Supplier 6: Mouser; Supplier Part Number 6: 863-MMBZ5229BLT1G; Packing: Tape and Reel; RoHS: Pb-Free; Mounting Technology: Surface Mount; ComponentLink1Description: Manufacturer URL; ComponentLink1URL: http://www.onsemi.com/; ComponentLink2Description: Datasheet; ComponentLink2URL: http://www.onsemi.cn/pub_link/Collateral/MMBZ5221BLT1-D.PDF; ComponentLink3Description: Package Specification; ComponentLink3URL: http://www.onsemi.cn/pub_link/Collateral/318-08.PDF
footprint ONSC-SOT-23-3-318-08_V (SOT23, 3-Leads, Body 2.92x1.3mm, Pitch 0.95mm)
part A pins: 1 A, 3 K
part B pins: 2 NC

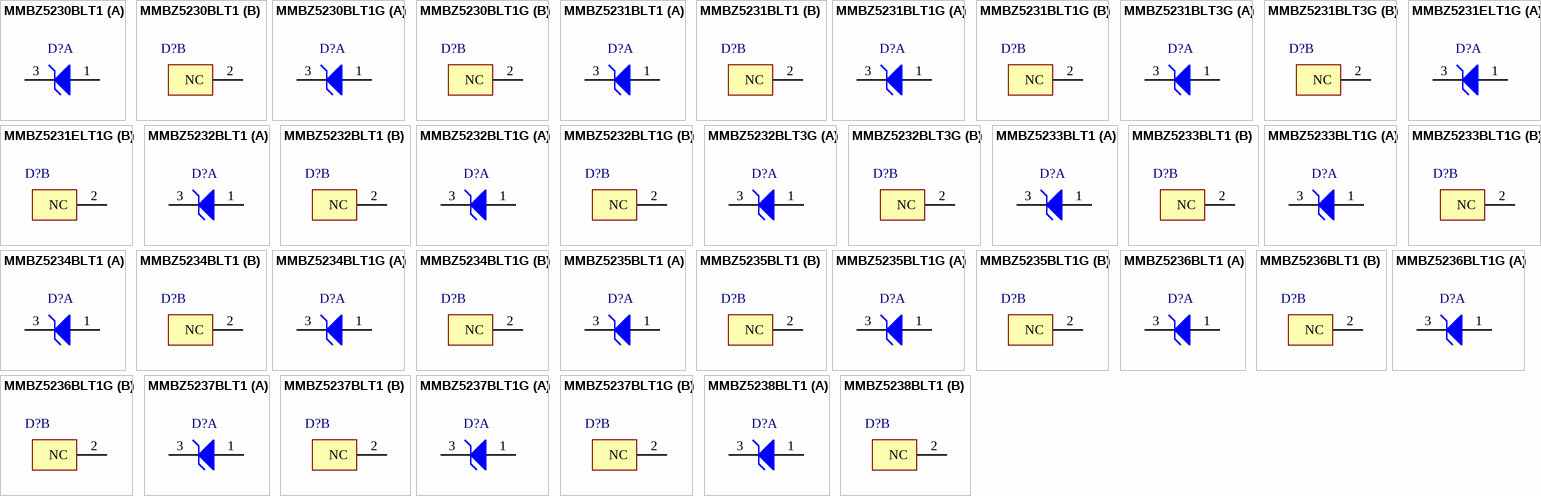
[diagram p17: symbols MMBZ5230BLT1 to MMBZ5238BLT1]

## MMBZ5230BLT1
designator D?
Zener Voltage Regulator, 225 mW, 3-Pin SOT-23, Tape and Reel; Manufacturer: On Semiconductor; PartNumber: MMBZ5230BLT1; VZ Typ (V): 4.7; DatasheetVersion: Rev. 12; PackageVersion: Rev. AP, 11/2009; PackageReference: SOT-23-3-318-08; PackageDescription: 3-Pin Small Outline Transistor, Body 2.92 x 1.3 mm, Pitch 0.95 mm; Supplier 1: Digi-Key; Supplier Part Number 1: MMBZ5230BLT1OSTR-ND; Supplier 2: Digi-Key; Supplier Part Number 2: MMBZ5230BLT1OSCT-ND; Packing: Tape and Reel; Mounting Technology: Surface Mount; ComponentLink1Description: Manufacturer URL; ComponentLink1URL: http://www.onsemi.com/; ComponentLink2Description: Datasheet; ComponentLink2URL: http://www.onsemi.cn/pub_link/Collateral/MMBZ5221BLT1-D.PDF; ComponentLink3Description: Package Specification; ComponentLink3URL: http://www.onsemi.cn/pub_link/Collateral/318-08.PDF
footprint ONSC-SOT-23-3-318-08_V (SOT23, 3-Leads, Body 2.92x1.3mm, Pitch 0.95mm)
part A pins: 1 A, 3 K
part B pins: 2 NC

## MMBZ5230BLT1G
designator D?
Zener Voltage Regulator, 225 mW, 3-Pin SOT-23, Pb-Free, Tape and Reel; Manufacturer: On Semiconductor; PartNumber: MMBZ5230BLT1G; VZ Typ (V): 4.7; DatasheetVersion: Rev. 12; PackageVersion: Rev. AP, 11/2009; PackageReference: SOT-23-3-318-08; PackageDescription: 3-Pin Small Outline Transistor, Body 2.92 x 1.3 mm, Pitch 0.95 mm; Supplier 1: Digi-Key; Supplier Part Number 1: MMBZ5230BLT1GOSTR-ND; Supplier 2: Digi-Key; Supplier Part Number 2: MMBZ5230BLT1GOSCT-ND; Supplier 3: Digi-Key; Supplier Part Number 3: MMBZ5230BLT1GOSDKR-ND; Supplier 4: Farnell; Supplier Part Number 4: 2317759; Supplier 5: Farnell; Supplier Part Number 5: 1431235RL; Supplier 6: Farnell; Supplier Part Number 6: 1431235; Supplier 7: Newark; Supplier Part Number 7: 67R1351; Supplier 8: Newark; Supplier Part Number 8: 88H4806; Supplier 9: Mouser; Supplier Part Number 9: 863-MMBZ5230BLT1G; Packing: Tape and Reel; RoHS: Pb-Free; Mounting Technology: Surface Mount; ComponentLink1Description: Manufacturer URL; ComponentLink1URL: http://www.onsemi.com/; ComponentLink2Description: Datasheet; ComponentLink2URL: http://www.onsemi.cn/pub_link/Collateral/MMBZ5221BLT1-D.PDF; ComponentLink3Description: Package Specification; ComponentLink3URL: http://www.onsemi.cn/pub_link/Collateral/318-08.PDF
footprint ONSC-SOT-23-3-318-08_V (SOT23, 3-Leads, Body 2.92x1.3mm, Pitch 0.95mm)
part A pins: 1 A, 3 K
part B pins: 2 NC

## MMBZ5231BLT1
designator D?
Zener Voltage Regulator, 225 mW, 3-Pin SOT-23, Tape and Reel; Manufacturer: On Semiconductor; PartNumber: MMBZ5231BLT1; VZ Typ (V): 5.1; DatasheetVersion: Rev. 12; PackageVersion: Rev. AP, 11/2009; PackageReference: SOT-23-3-318-08; PackageDescription: 3-Pin Small Outline Transistor, Body 2.92 x 1.3 mm, Pitch 0.95 mm; Supplier 1: Digi-Key; Supplier Part Number 1: MMBZ5231BLT1OSCT-ND; Supplier 2: Mouser; Supplier Part Number 2: 863-MMBZ5231BLT1; Packing: Tape and Reel; Mounting Technology: Surface Mount; ComponentLink1Description: Manufacturer URL; ComponentLink1URL: http://www.onsemi.com/; ComponentLink2Description: Datasheet; ComponentLink2URL: http://www.onsemi.cn/pub_link/Collateral/MMBZ5221BLT1-D.PDF; ComponentLink3Description: Package Specification; ComponentLink3URL: http://www.onsemi.cn/pub_link/Collateral/318-08.PDF
footprint ONSC-SOT-23-3-318-08_V (SOT23, 3-Leads, Body 2.92x1.3mm, Pitch 0.95mm)
part A pins: 1 A, 3 K
part B pins: 2 NC

## MMBZ5231BLT1G
designator D?
Zener Voltage Regulator, 225 mW, 3-Pin SOT-23, Pb-Free, Tape and Reel; Manufacturer: On Semiconductor; PartNumber: MMBZ5231BLT1G; VZ Typ (V): 5.1; DatasheetVersion: Rev. 12; PackageVersion: Rev. AP, 11/2009; PackageReference: SOT-23-3-318-08; PackageDescription: 3-Pin Small Outline Transistor, Body 2.92 x 1.3 mm, Pitch 0.95 mm; Supplier 1: Digi-Key; Supplier Part Number 1: MMBZ5231BLT1GOSTR-ND; Supplier 2: Digi-Key; Supplier Part Number 2: MMBZ5231BLT1GOSCT-ND; Supplier 3: Digi-Key; Supplier Part Number 3: MMBZ5231BLT1GOSDKR-ND; Supplier 4: Farnell; Supplier Part Number 4: 1431236RL; Supplier 5: Farnell; Supplier Part Number 5: 2317750; Supplier 6: Farnell; Supplier Part Number 6: 1431236; Supplier 7: Newark; Supplier Part Number 7: 67R1352; Supplier 8: Newark; Supplier Part Number 8: 88H4809; Supplier 9: Mouser; Supplier Part Number 9: 863-MMBZ5231BLT1G; Packing: Tape and Reel; RoHS: Pb-Free; Mounting Technology: Surface Mount; ComponentLink1Description: Manufacturer URL; ComponentLink1URL: http://www.onsemi.com/; ComponentLink2Description: Datasheet; ComponentLink2URL: http://www.onsemi.cn/pub_link/Collateral/MMBZ5221BLT1-D.PDF; ComponentLink3Description: Package Specification; ComponentLink3URL: http://www.onsemi.cn/pub_link/Collateral/318-08.PDF
footprint ONSC-SOT-23-3-318-08_V (SOT23, 3-Leads, Body 2.92x1.3mm, Pitch 0.95mm)
part A pins: 1 A, 3 K
part B pins: 2 NC

## MMBZ5231BLT3G
designator D?
Zener Voltage Regulator, 225 mW, 3-Pin SOT-23, Pb-Free, Tape and Reel; Manufacturer: On Semiconductor; PartNumber: MMBZ5231BLT3G; VZ Typ (V): 5.1; DatasheetVersion: Rev. 12; PackageVersion: Rev. AP, 11/2009; PackageReference: SOT-23-3-318-08; PackageDescription: 3-Pin Small Outline Transistor, Body 2.92 x 1.3 mm, Pitch 0.95 mm; Supplier 1: Digi-Key; Supplier Part Number 1: MMBZ5231BLT3GOSTR-ND; Supplier 2: Digi-Key; Supplier Part Number 2: MMBZ5231BLT3GOSCT-ND; Supplier 3: Digi-Key; Supplier Part Number 3: MMBZ5231BLT3GOSDKR-ND; Supplier 4: Newark; Supplier Part Number 4: 71J5999; Supplier 5: Mouser; Supplier Part Number 5: 863-MMBZ5231BLT3G; Packing: Tape and Reel; RoHS: Pb-Free; Mounting Technology: Surface Mount; ComponentLink1Description: Manufacturer URL; ComponentLink1URL: http://www.onsemi.com/; ComponentLink2Description: Datasheet; ComponentLink2URL: http://www.onsemi.cn/pub_link/Collateral/MMBZ5221BLT1-D.PDF; ComponentLink3Description: Package Specification; ComponentLink3URL: http://www.onsemi.cn/pub_link/Collateral/318-08.PDF
footprint ONSC-SOT-23-3-318-08_V (SOT23, 3-Leads, Body 2.92x1.3mm, Pitch 0.95mm)
part A pins: 1 A, 3 K
part B pins: 2 NC

## MMBZ5231ELT1G
designator D?
Zener Voltage Regulator, 225 mW, 3-Pin SOT-23, Pb-Free, Tape and Reel; Manufacturer: On Semiconductor; PartNumber: MMBZ5231ELT1G; VZ Typ (V): 5.1; DatasheetVersion: Rev. 7; PackageVersion: Rev. AP, 11/2009; PackageReference: SOT-23-3-318-08; PackageDescription: 3-Pin Small Outline Transistor, Body 2.92 x 1.3 mm, Pitch 0.95 mm; Supplier 1: Digi-Key; Supplier Part Number 1: MMBZ5231ELT1GOSTR-ND; Supplier 2: Digi-Key; Supplier Part Number 2: MMBZ5231ELT1GOSCT-ND; Supplier 3: Digi-Key; Supplier Part Number 3: MMBZ5231ELT1GOSDKR-ND; Supplier 4: Mouser; Supplier Part Number 4: 863-MMBZ5231ELT1G; Packing: Tape and Reel; RoHS: Pb-Free; Mounting Technology: Surface Mount; ComponentLink1Description: Manufacturer URL; ComponentLink1URL: http://www.onsemi.com/; ComponentLink2Description: Datasheet; ComponentLink2URL: http://www.onsemi.com/pub_link/Collateral/MMBZ5221ELT1-D.PDF; ComponentLink3Description: Package Specification; ComponentLink3URL: http://www.onsemi.cn/pub_link/Collateral/318-08.PDF
footprint ONSC-SOT-23-3-318-08_V (SOT23, 3-Leads, Body 2.92x1.3mm, Pitch 0.95mm)
part A pins: 1 A, 3 K
part B pins: 2 NC

## MMBZ5232BLT1
designator D?
Zener Voltage Regulator, 225 mW, 3-Pin SOT-23, Tape and Reel; Manufacturer: On Semiconductor; PartNumber: MMBZ5232BLT1; VZ Typ (V): 5.6; DatasheetVersion: Rev. 12; PackageVersion: Rev. AP, 11/2009; PackageReference: SOT-23-3-318-08; PackageDescription: 3-Pin Small Outline Transistor, Body 2.92 x 1.3 mm, Pitch 0.95 mm; Supplier 1: Digi-Key; Supplier Part Number 1: MMBZ5232BLT1OSCT-ND; Packing: Tape and Reel; Mounting Technology: Surface Mount; ComponentLink1Description: Manufacturer URL; ComponentLink1URL: http://www.onsemi.com/; ComponentLink2Description: Datasheet; ComponentLink2URL: http://www.onsemi.cn/pub_link/Collateral/MMBZ5221BLT1-D.PDF; ComponentLink3Description: Package Specification; ComponentLink3URL: http://www.onsemi.cn/pub_link/Collateral/318-08.PDF
footprint ONSC-SOT-23-3-318-08_V (SOT23, 3-Leads, Body 2.92x1.3mm, Pitch 0.95mm)
part A pins: 1 A, 3 K
part B pins: 2 NC

## MMBZ5232BLT1G
designator D?
Zener Voltage Regulator, 225 mW, 3-Pin SOT-23, Pb-Free, Tape and Reel; Manufacturer: On Semiconductor; PartNumber: MMBZ5232BLT1G; VZ Typ (V): 5.6; DatasheetVersion: Rev. 12; PackageVersion: Rev. AP, 11/2009; PackageReference: SOT-23-3-318-08; PackageDescription: 3-Pin Small Outline Transistor, Body 2.92 x 1.3 mm, Pitch 0.95 mm; Supplier 1: Digi-Key; Supplier Part Number 1: MMBZ5232BLT1GOSTR-ND; Supplier 2: Digi-Key; Supplier Part Number 2: MMBZ5232BLT1GOSCT-ND; Supplier 3: Digi-Key; Supplier Part Number 3: MMBZ5232BLT1GOSDKR-ND; Supplier 4: Farnell; Supplier Part Number 4: 1431238; Supplier 5: Farnell; Supplier Part Number 5: 1431238RL; Supplier 6: Farnell; Supplier Part Number 6: 2317744; Supplier 7: Newark; Supplier Part Number 7: 67R1353; Supplier 8: Newark; Supplier Part Number 8: 98H0775; Supplier 9: Mouser; Supplier Part Number 9: 863-MMBZ5232BLT1G; Packing: Tape and Reel; RoHS: Pb-Free; Mounting Technology: Surface Mount; ComponentLink1Description: Manufacturer URL; ComponentLink1URL: http://www.onsemi.com/; ComponentLink2Description: Datasheet; ComponentLink2URL: http://www.onsemi.cn/pub_link/Collateral/MMBZ5221BLT1-D.PDF; ComponentLink3Description: Package Specification; ComponentLink3URL: http://www.onsemi.cn/pub_link/Collateral/318-08.PDF
footprint ONSC-SOT-23-3-318-08_V (SOT23, 3-Leads, Body 2.92x1.3mm, Pitch 0.95mm)
part A pins: 1 A, 3 K
part B pins: 2 NC

## MMBZ5232BLT3G
designator D?
Zener Voltage Regulator, 225 mW, 3-Pin SOT-23, Pb-Free, Tape and Reel; Manufacturer: On Semiconductor; PartNumber: MMBZ5232BLT3G; VZ Typ (V): 5.6; DatasheetVersion: Rev. 12; PackageVersion: Rev. AP, 11/2009; PackageReference: SOT-23-3-318-08; PackageDescription: 3-Pin Small Outline Transistor, Body 2.92 x 1.3 mm, Pitch 0.95 mm; Supplier 1: Digi-Key; Supplier Part Number 1: MMBZ5232BLT3G-ND; Supplier 2: Mouser; Supplier Part Number 2: 863-MMBZ5232BLT3G; Packing: Tape and Reel; RoHS: Pb-Free; Mounting Technology: Surface Mount; ComponentLink1Description: Manufacturer URL; ComponentLink1URL: http://www.onsemi.com/; ComponentLink2Description: Datasheet; ComponentLink2URL: http://www.onsemi.cn/pub_link/Collateral/MMBZ5221BLT1-D.PDF; ComponentLink3Description: Package Specification; ComponentLink3URL: http://www.onsemi.cn/pub_link/Collateral/318-08.PDF
footprint ONSC-SOT-23-3-318-08_V (SOT23, 3-Leads, Body 2.92x1.3mm, Pitch 0.95mm)
part A pins: 1 A, 3 K
part B pins: 2 NC

## MMBZ5233BLT1
designator D?
Zener Voltage Regulator, 225 mW, 3-Pin SOT-23, Tape and Reel; Manufacturer: On Semiconductor; PartNumber: MMBZ5233BLT1; VZ Typ (V): 6; DatasheetVersion: Rev. 12; PackageVersion: Rev. AP, 11/2009; PackageReference: SOT-23-3-318-08; PackageDescription: 3-Pin Small Outline Transistor, Body 2.92 x 1.3 mm, Pitch 0.95 mm; Supplier 1: Digi-Key; Supplier Part Number 1: MMBZ5233BLT1OSTR-ND; Supplier 2: Digi-Key; Supplier Part Number 2: MMBZ5233BLT1OSCT-ND; Packing: Tape and Reel; Mounting Technology: Surface Mount; ComponentLink1Description: Manufacturer URL; ComponentLink1URL: http://www.onsemi.com/; ComponentLink2Description: Datasheet; ComponentLink2URL: http://www.onsemi.cn/pub_link/Collateral/MMBZ5221BLT1-D.PDF; ComponentLink3Description: Package Specification; ComponentLink3URL: http://www.onsemi.cn/pub_link/Collateral/318-08.PDF
footprint ONSC-SOT-23-3-318-08_V (SOT23, 3-Leads, Body 2.92x1.3mm, Pitch 0.95mm)
part A pins: 1 A, 3 K
part B pins: 2 NC